# Altium footprint library CONN_SMT.PcbLib: 33 footprints (part 1 of 3)
Each footprint in its own frame and in the unit in brackets; x right, y up, seen from the top. Pads: shape width x height; smd on the part's side, far side on the other; paste and mask are expansions set on the pad; w line width, h text height; cw(c..) or ccw(c..) is an arc to the next point about the centre after c.
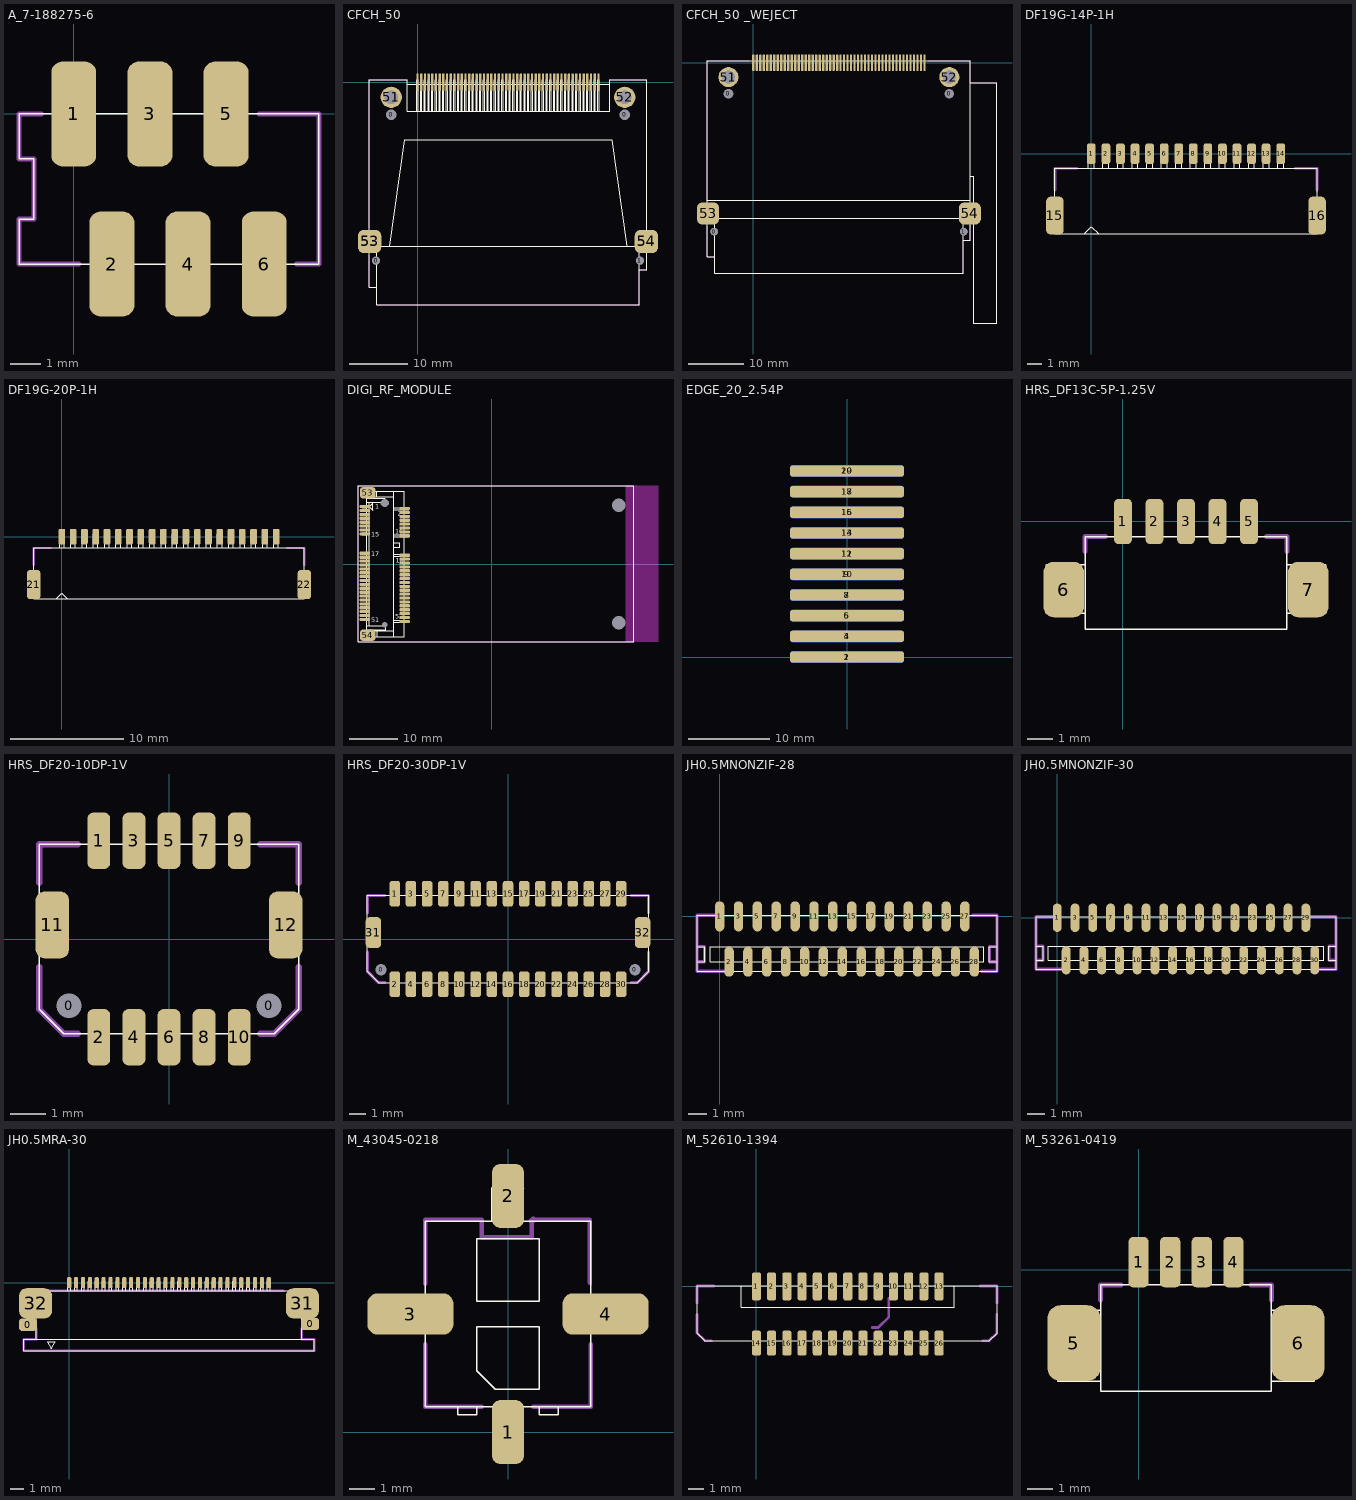
[diagram p0: the footprints below, top view; thin cyan lines are the x and y axes]

## A_7-188275-6 [mm] "Amp 188275 series 2.54 mm pitch, 6 way, jack. Rev. 1"
height 5.3
pads (6):
  rrect50% 1.5x3.5 smd: 1(0,0) 2(1.27,-5) 3(2.54,0) 4(3.81,-5) 5(5.08,0) 6(6.35,-5)
Top Overlay:
  lines w0.05: -1.825,-5 -1.825,-3.5 -1.325,-3.5 -1.325,-1.5 -1.825,-1.5 -1.825,0 8.175,0 8.175,-5 -1.825,-5
Comp Silk:
  lines w0.18: -1.075,0 -1.825,0 -1.825,-1.5 -1.325,-1.5 -1.325,-3.5 -1.825,-3.5 -1.825,-5 0.175,-5 ; 6.175,0 8.175,0 8.175,-5 7.425,-5
  text ".Designator" at -0.825,-3 h1.5

## CFCH_50 [mm] "Connector; CompactFlash Card Header, SM; Normal Polarization; 50 Position; Right Angle; Pitch 0.635 mm"
height 8.3
pads (58):
  round 1.35 hole 1.35: 0(-7.14,-30.7) 1(38.26,-30.7)
  round 1.4 hole 1.75 unplated: 0(-4.52,-5.6) 0(35.64,-5.6)
  rrect50% 0.4x3 smd: 1(0,0) 2(1.27,0) 3(2.54,0) 4(3.81,0) 5(5.08,0) 6(6.35,0) 7(7.62,0) 8(8.89,0) 9(10.16,0) 10(11.43,0) 11(12.7,0) 12(13.97,0) 13(15.24,0) 14(16.51,0) 15(17.78,0) 16(19.05,0) 17(20.32,0) 18(21.59,0) 19(22.86,0) 20(24.13,0) 21(25.4,0) 22(26.67,0) 23(27.94,0) 24(29.21,0) 25(30.48,0) 26(0.635,0) 27(1.905,0) 28(3.175,0) 29(4.445,0) 30(5.715,0) 31(6.985,0) 32(8.255,0) 33(9.525,0) 34(10.795,0) 35(12.065,0) 36(13.335,0) 37(14.605,0) 38(15.875,0) 39(17.145,0) 40(18.415,0) 41(19.685,0) 42(20.955,0) 43(22.225,0) 44(23.495,0) 45(24.765,0) 46(26.035,0) 47(27.305,0) 48(28.575,0) 49(29.845,0) 50(31.115,0)
  round 3.65 hole 2.3: 51(-4.52,-2.6) 52(35.64,-2.6)
  rrect50% 4x4 smd: 53(-8.24,-27.4) 54(39.36,-27.4)
Top Overlay:
  drawing of 226 lines, arcs and shapes, not listed
Comp Silk:
  lines w0.18: -8.34,-29.77 -8.34,-35.25 -7,-35.25 -7,-38.25 38.12,-38.25 38.12,-32.25 39.46,-32.25 39.46,-29.63 ; -8.34,-25 -8.34,0.39 ; -8.34,0.4 -1.8,0.4 ; 33.1,0.41 33.11,0.4 39.46,0.4 39.46,-24.99
  text ".Designator" at 10.7,-8.2 h1.5

## CFCH_50 _WEJECT [mm] "Connector; CompactFlash Card Header, SM; Normal Polarization; 50 Position; Right Angle; Pitch 0.635 mm"
height 8.3
pads (58):
  round 1.35 hole 1.35: 0(-7.14,-30.7) 1(38.26,-30.7)
  round 1.4 hole 1.75 unplated: 0(-4.52,-5.6) 0(35.64,-5.6)
  rrect50% 0.4x3 smd: 1(0,0) 2(1.27,0) 3(2.54,0) 4(3.81,0) 5(5.08,0) 6(6.35,0) 7(7.62,0) 8(8.89,0) 9(10.16,0) 10(11.43,0) 11(12.7,0) 12(13.97,0) 13(15.24,0) 14(16.51,0) 15(17.78,0) 16(19.05,0) 17(20.32,0) 18(21.59,0) 19(22.86,0) 20(24.13,0) 21(25.4,0) 22(26.67,0) 23(27.94,0) 24(29.21,0) 25(30.48,0) 26(0.635,0) 27(1.905,0) 28(3.175,0) 29(4.445,0) 30(5.715,0) 31(6.985,0) 32(8.255,0) 33(9.525,0) 34(10.795,0) 35(12.065,0) 36(13.335,0) 37(14.605,0) 38(15.875,0) 39(17.145,0) 40(18.415,0) 41(19.685,0) 42(20.955,0) 43(22.225,0) 44(23.495,0) 45(24.765,0) 46(26.035,0) 47(27.305,0) 48(28.575,0) 49(29.845,0) 50(31.115,0)
  round 3.65 hole 2.3: 51(-4.52,-2.6) 52(35.64,-2.6)
  rrect50% 4x4 smd: 53(-8.24,-27.4) 54(39.36,-27.4)
Top Overlay:
  lines w0.05: -8.34,-25.03 -8.33,-25.02 39.47,-25.02 ; 39.46,-20.6 40.1,-20.6 40.1,-47.4 44.3,-47.4 44.3,-3.6 39.47,-3.6 39.46,-3.59 ; -7,-35.25 -8.34,-35.25 -8.34,0.4 -1.8,0.4 33.1,0.4 39.46,0.4 39.46,-32.25 38.12,-32.25 ; -7,-35.25 -7,-28.25 38.11,-28.25 ; -7,-35.25 -7,-38.25 38.12,-38.25 38.12,-32.25 ; 38.11,-28.25 38.12,-28.26 ; 38.11,-28.25 38.12,-28.26 ; 38.12,-32.25 38.12,-28.26
Comp Silk:
  lines w0.18: -8.34,-29.77 -8.34,-35.25 -7,-35.25 -7,-38.25 38.12,-38.25 38.12,-32.25 39.46,-32.25 39.46,-29.63 ; -8.34,-25 -8.34,0.39 ; -8.34,0.4 -0.91,0.4 ; 31.78,0.4 39.46,0.4 39.46,-3.6 ; 39.5,-3.6 44.3,-3.6 44.3,-47.4 40.1,-47.4 40.1,-29.7
  text ".Designator" at 10.7,-8.2 h1.5

## DF19G-14P-1H [mm] "HRS DF19 Series 1mm pitch, 14 way, board to cable, Rev.2"
height 1.65
pads (16):
  rrect50% 0.6x1.4 smd paste+0: 1(0,0) 2(1,0) 3(2,0) 4(3,0) 5(4,0) 6(5,0) 7(6,0) 8(7,0) 9(8,0) 10(9,0) 11(10,0) 12(11,0) 13(12,0) 14(13,0)
  rrect50% 1.2x2.6 smd: 15(-2.5,-4.25) 16(15.5,-4.25)
Top Overlay:
  lines w0.05: -0.5,-5.5 0,-5 0.5,-5.5 ; -0.2,-1 -0.2,0.2 0.2,0.2 0.2,-1 ; 0.8,-1 0.8,0.2 1.2,0.2 1.2,-1 ; 1.8,-1 1.8,0.2 2.2,0.2 2.2,-1 ; 2.8,-1 2.8,0.2 3.2,0.2 3.2,-1 ; 3.8,-1 3.8,0.2 4.2,0.2 4.2,-1 ; 4.8,-1 4.8,0.2 5.2,0.2 5.2,-1 ; 5.8,-1 5.8,0.2 6.2,0.2 6.2,-1 ; 6.8,-1 6.8,0.2 7.2,0.2 7.2,-1 ; 7.8,-1 7.8,0.2 8.2,0.2 8.2,-1 ; 8.8,-1 8.8,0.2 9.2,0.2 9.2,-1 ; 9.8,-1 9.8,0.2 10.2,0.2 10.2,-1 ; 10.8,-1 10.8,0.2 11.2,0.2 11.2,-1 ; 11.8,-1 11.8,0.2 12.2,0.2 12.2,-1 ; 12.8,-1 12.8,0.2 13.2,0.2 13.2,-1 ; -2.5,-5.5 -2.5,-1 15.5,-1 15.5,-5.5 -2.5,-5.5
Comp Silk:
  lines w0.2: -2.5,-2.5 -2.5,-1 -1,-1 ; 14,-1 15.5,-1 15.5,-2.5
  text ".Designator" at -1.25,-3.75 h1.5

## DF19G-20P-1H [mm] "HRS DF19 Series 1mm pitch, 20 way, board to cable, Rev.2"
height 1.65
pads (22):
  rrect50% 0.6x1.4 smd paste+0: 1(0,0) 2(1,0) 3(2,0) 4(3,0) 5(4,0) 6(5,0) 7(6,0) 8(7,0) 9(8,0) 10(9,0) 11(10,0) 12(11,0) 13(12,0) 14(13,0) 15(14,0) 16(15,0) 17(16,0) 18(17,0) 19(18,0) 20(19,0)
  rrect50% 1.2x2.6 smd: 21(-2.5,-4.25) 22(21.5,-4.25)
Top Overlay:
  lines w0.05: -0.5,-5.5 0,-5 0.5,-5.5 ; -0.2,-1 -0.2,0.2 0.2,0.2 0.2,-1 ; 0.8,-1 0.8,0.2 1.2,0.2 1.2,-1 ; 1.8,-1 1.8,0.2 2.2,0.2 2.2,-1 ; 2.8,-1 2.8,0.2 3.2,0.2 3.2,-1 ; 3.8,-1 3.8,0.2 4.2,0.2 4.2,-1 ; 4.8,-1 4.8,0.2 5.2,0.2 5.2,-1 ; 5.8,-1 5.8,0.2 6.2,0.2 6.2,-1 ; 6.8,-1 6.8,0.2 7.2,0.2 7.2,-1 ; 7.8,-1 7.8,0.2 8.2,0.2 8.2,-1 ; 8.8,-1 8.8,0.2 9.2,0.2 9.2,-1 ; 9.8,-1 9.8,0.2 10.2,0.2 10.2,-1 ; 10.8,-1 10.8,0.2 11.2,0.2 11.2,-1 ; 11.8,-1 11.8,0.2 12.2,0.2 12.2,-1 ; 12.8,-1 12.8,0.2 13.2,0.2 13.2,-1 ; 13.8,-1 13.8,0.2 14.2,0.2 14.2,-1 ; 14.8,-1 14.8,0.2 15.2,0.2 15.2,-1 ; 15.8,-1 15.8,0.2 16.2,0.2 16.2,-1 ; 16.8,-1 16.8,0.2 17.2,0.2 17.2,-1 ; 17.8,-1 17.8,0.2 18.2,0.2 18.2,-1 ; 18.8,-1 18.8,0.2 19.2,0.2 19.2,-1 ; -2.5,-5.5 -2.5,-1 21.5,-1 21.5,-5.5 -2.5,-5.5
Comp Silk:
  lines w0.2: -2.5,-2.5 -2.5,-1 -1,-1 ; 20,-1 21.5,-1 21.5,-2.5
  text ".Designator" at 1.5,-3.75 h1.5

## DIGI_RF_MODULE [mm] "317-0100-084 REV1"
height 4.1
pads (58):
  rrect50% 2.1x0.65 smd mask+0.102: 1(-26.125,11.8) 3(-26.125,11) 5(-26.125,10.2) 7(-26.125,9.4) 9(-26.125,8.6) 11(-26.125,7.8)
  rrect50% 2.1x0.65 smd: 2(-17.925,11.4) 4(-17.925,10.6) 6(-17.925,9.8) 8(-17.925,9) 10(-17.925,8.2) 12(-17.925,7.4) 13(-26.125,7) 14(-17.925,6.6) 15(-26.125,6.2) 16(-17.925,5.8) 17(-26.125,2.2) 18(-17.925,1.8) 19(-26.125,1.4) 20(-17.925,1) 21(-26.125,0.6) 22(-17.925,0.2) 23(-26.125,-0.2) 24(-17.925,-0.6) 25(-26.125,-1) 26(-17.925,-1.4) 27(-26.125,-1.8) 28(-17.925,-2.2) 29(-26.125,-2.6) 30(-17.925,-3) 31(-26.125,-3.4) 32(-17.925,-3.8) 33(-26.125,-4.2) 34(-17.925,-4.6) 35(-26.125,-5) 36(-17.925,-5.4) 37(-26.125,-5.8) 38(-17.925,-6.2) 39(-26.125,-6.6) 40(-17.925,-7) 41(-26.125,-7.4) 42(-17.925,-7.8) 43(-26.125,-8.2) 44(-17.925,-8.6) 45(-26.125,-9) 46(-17.925,-9.4) 47(-26.125,-9.8) 48(-17.925,-10.2) 49(-26.125,-10.6) 50(-17.925,-11) 51(-26.125,-11.4) 52(-17.925,-11.8)
  rrect50% 3.2x2.3 smd: 53(-25.525,14.65) 54(-25.525,-14.65)
  round 0.6 on Top hole 1.65 unplated: 55(-22.025,12.5)
  round 0.6 on Top hole 1.15 unplated: 56(-22.025,-12.5)
  round 0.6 on Top hole 2.8: 57(26.125,12.1) 58(26.125,-12.1)
Top Overlay:
  lines w0.05: -25.775,-11.2 -26.7,-11.2 -26.7,-11.6 -25.75,-11.6 ; -25.75,-13.775 -20.15,-13.775 ; -25.75,-13.525 -21.85,-13.525 -21.85,-12.7 -25.75,-12.7 ; -25.75,2 -26.7,2 -26.7,2.4 -25.75,2.4 ; -25.75,6 -26.7,6 -26.7,6.4 -25.75,6.4 ; -25.75,11.575 -26.7,11.575 -26.7,12 -25.75,12 ; -25.75,12.7 -21.85,12.7 -21.85,13.225 -22.15,13.525 -25.75,13.525 ; -25.75,13.825 -20.15,13.825 ; -25.241,11.791 -24.541,11.091 -24.54,12.516 ; -25.24,11.815 -24.54,12.515 ; -25.225,-12.7 -25.225,12.7 ; -23.625,13.825 -23.625,15 ; -23.6,-15 -23.6,-13.775 ; -20.15,-15 -20.15,15 ; -20.15,-12 -17.075,-12 -17.075,-11.575 -20.15,-11.575 ; -20.15,1.575 -17.075,1.575 -17.075,2 -20.15,2 ; -20.15,3.475 -18.975,3.475 -18.975,4.325 -20.15,4.325 ; -20.15,5.575 -17.05,5.575 -17.05,6 -20.15,6 ; -20.15,11.175 -17.05,11.175 -17.05,11.6 -20.15,11.6 ; -18,-12 -18,-15 -25.75,-15 -25.75,15 -18,15 -18,11.6 ; -18,-11.575 -18,1.575 ; -18,2 -18,5.575 ; -18,6 -18,11.175 ; -27.525,-16 -27.525,16.1 29.175,16.1 29.175,-16 -27.525,-16
  text "2" at -19.35,9.925 h1
  text "1" at -24,11.35 h1
  text "51" at -24.75,-12 h1
  text "17" at -24.75,1.6 h1
  text "16" at -19.875,6.2 h1
  text "15" at -24.75,5.6 h1
  text "18" at -19.775,0.3 h1
  text "52" at -19.9,-11.25 h1
Keep-Out Layer:
  region: 27.575,16.1 31.175,16.1 34.175,16.1 34.175,-16 27.575,-16
Comp Silk:
  lines w0.18: -27.525,-16 -27.525,16.1 29.175,16.1 29.175,-16 -27.525,-16
  lines w0.254: 29.575,16.1 29.675,16
  text ".Designator" at -2.925,0.9 h1.5

## EDGE_20_2.54P [mm] "20 way edge finger connector, both sides. Rev. 1"
height 0.01
pads (20):
  rrect50% 14x1.4 smd far side paste+0: 1(0,0) 3(0,2.54) 5(0,5.08) 7(0,7.62) 9(0,10.16) 11(0,12.7) 13(0,15.24) 15(0,17.78) 17(0,20.32) 19(0,22.86)
  rrect50% 14x1.4 smd paste+0: 2(0,0) 4(0,2.54) 6(0,5.08) 8(0,7.62) 10(0,10.16) 12(0,12.7) 14(0,15.24) 16(0,17.78) 18(0,20.32) 20(0,22.86)
Top Solder:
  region: -7.112,23.622 7.112,23.622 7.112,-0.762 -7.112,-0.762 -7.112,23.622
Bottom Solder:
  region: -7.112,23.622 7.112,23.622 7.112,-0.762 -7.112,-0.762 -7.112,23.622

## HRS_DF13C-5P-1.25V [mm] "HRS DF13 series 1.25 mm pitch, 5 way, plug., Rev. 2"
height 4.8
pads (7):
  rrect50% 0.7x1.8 smd paste+0: 1(0,0) 2(1.25,0) 3(2.5,0) 4(3.75,0) 5(5,0)
  rrect50% 1.6x2.2 smd: 6(-2.35,-2.7) 7(7.35,-2.7)
Top Overlay:
  lines w0.05: -0.975,-4.275 6.5,-4.275 6.5,-0.6 -1.5,-0.6 -1.5,-4.275 -0.675,-4.275 ; -0.2,-0.6 -0.2,0 -0.2,0.6 0.2,0.6 0.2,-0.6 ; 1.05,-0.575 1.05,0.025 1.05,0.625 1.45,0.625 1.45,-0.575 ; 2.3,-0.575 2.3,0.025 2.3,0.625 2.7,0.625 2.7,-0.575 ; 3.55,-0.575 3.55,0.025 3.55,0.625 3.95,0.625 3.95,-0.575 ; 4.8,-0.6 4.8,0 4.8,0.6 5.2,0.6 5.2,-0.6 ; -3.05,-3.65 -3.05,-1.725 -1.5,-1.725 -1.5,-3.65 -3.05,-3.65 ; 6.5,-3.65 8.05,-3.65 8.05,-1.725 6.5,-1.725 6.5,-3.65
Comp Silk:
  lines w0.2: -1.5,-1.2 -1.5,-0.6 -0.7,-0.6 ; 5.7,-0.6 6.5,-0.6 6.5,-1.2
  text ".Designator" at -0.375,-3.05 h1.5

## HRS_DF20-10DP-1V [mm] "Hirose DF20 series 1 mm pitch, 10 way, plug. Rev. 2"
height 4.6
pads (14):
  round 0.5 hole 0.7 unplated: 0(-2.85,-1.9) 0(2.85,-1.9)
  rrect50% 0.65x1.6 smd paste+0: 1(-2,2.8) 2(-2,-2.8) 3(-1,2.8) 4(-1,-2.8) 5(0,2.8) 6(0,-2.8) 7(1,2.8) 8(1,-2.8) 9(2,2.8) 10(2,-2.8)
  rrect50% 0.95x1.9 smd: 11(-3.325,0.4) 12(3.325,0.4)
Top Overlay:
  lines w0.05: -3.7,-2 -3.7,1.9 -3.7,2.7 3.7,2.7 3.7,-2 3,-2.7 -3,-2.7 -3.7,-2
Comp Silk:
  lines w0.18: -3.7,-0.8 -3.7,-2 -3,-2.7 -2.6,-2.7 ; -3.7,1.6 -3.7,2.7 -2.6,2.7 ; 2.6,-2.7 3,-2.7 3.7,-2 3.7,-0.8 ; 2.6,2.7 3.7,2.7 3.7,1.6
  text ".Designator" at -1.8,-0.6 h1.5

## HRS_DF20-30DP-1V [mm] "Hirose DF20 series 1 mm pitch, 30 way, plug. Rev. 2"
height 4.6
pads (34):
  round 0.5 hole 0.7 unplated: 0(-7.85,-1.9) 0(7.85,-1.9)
  rrect50% 0.65x1.6 smd paste+0: 1(-7,2.8) 2(-7,-2.8) 3(-6,2.8) 4(-6,-2.8) 5(-5,2.8) 6(-5,-2.8) 7(-4,2.8) 8(-4,-2.8) 9(-3,2.8) 10(-3,-2.8) 11(-2,2.8) 12(-2,-2.8) 13(-1,2.8) 14(-1,-2.8) 15(0,2.8) 16(0,-2.8) 17(1,2.8) 18(1,-2.8) 19(2,2.8) 20(2,-2.8) 21(3,2.8) 22(3,-2.8) 23(4,2.8) 24(4,-2.8) 25(5,2.8) 26(5,-2.8) 27(6,2.8) 28(6,-2.8) 29(7,2.8) 30(7,-2.8)
  rrect50% 0.95x1.9 smd: 31(-8.325,0.4) 32(8.325,0.4)
Top Overlay:
  lines w0.05: -8.7,-2 -8,-2.7 -0.4,-2.7 8,-2.7 8.7,-2 8.7,2.7 -8.7,2.7 -8.7,1.9 -8.7,-2
Comp Silk:
  lines w0.18: -8.7,-0.8 -8.7,-2 -8,-2.7 -7.6,-2.7 ; -8.7,1.6 -8.7,2.7 -7.6,2.7 ; 7.6,-2.7 8,-2.7 8.7,-2 8.7,-0.8 ; 7.6,2.7 8.7,2.7 8.7,1.6
  text ".Designator" at -7.4,-0.4 h1.5

## JH0.5MNONZIF-28 [mm]
height 4.064
pads (28):
  oval 0.5x1.6 smd: 1(0,0) 2(0.5,-2.4) 3(1,0) 4(1.5,-2.4) 5(2,0) 6(2.5,-2.4) 7(3,0) 8(3.5,-2.4) 9(4,0) 10(4.5,-2.4) 11(5,0) 12(5.5,-2.4) 13(6,0) 14(6.5,-2.4) 15(7,0) 16(7.5,-2.4) 17(8,0) 18(8.5,-2.4) 19(9,0) 20(9.5,-2.4) 21(10,0) 22(10.5,-2.4) 23(11,0) 24(11.5,-2.4) 25(12,0) 26(12.5,-2.4) 27(13,0) 28(13.5,-2.4)
Top Overlay:
  lines w0.05: -1.2,-2.4 -0.8,-2.4 -0.8,-1.6 -1.2,-1.6 ; -0.15,0.05 -0.15,0.5 0.15,0.5 0.15,0.05 ; 0.85,0.05 0.85,0.5 1.15,0.5 1.15,0.05 ; 1.85,0.05 1.85,0.5 2.15,0.5 2.15,0.05 ; 2.85,0.05 2.85,0.5 3.15,0.5 3.15,0.05 ; 3.85,0.05 3.85,0.5 4.15,0.5 4.15,0.05 ; 4.85,0.05 4.85,0.5 5.15,0.5 5.15,0.05 ; 5.85,0.05 5.85,0.5 6.15,0.5 6.15,0.05 ; 6.85,0.05 6.85,0.5 7.15,0.5 7.15,0.05 ; 7.85,0.05 7.85,0.5 8.15,0.5 8.15,0.05 ; 8.85,0.05 8.85,0.5 9.15,0.5 9.15,0.05 ; 9.85,0.05 9.85,0.5 10.15,0.5 10.15,0.05 ; 10.85,0.05 10.85,0.5 11.15,0.5 11.15,0.05 ; 11.85,0.05 11.85,0.5 12.15,0.5 12.15,0.05 ; 12.85,0.05 12.85,0.5 13.15,0.5 13.15,0.05 ; 14.7,-2.4 14.3,-2.4 14.3,-1.6 14.7,-1.6 ; -1.2,-2.9 14.7,-2.9 14.7,0.05 -1.2,0.05 -1.2,-2.9 ; -0.5,-2.4 14,-2.4 14,-1.6 -0.5,-1.6 -0.5,-2.4
Comp Silk:
  lines w0.18: -1.2,-2.4 -0.8,-2.4 -0.8,-1.6 -1.2,-1.6 ; -0.2,0.05 -1.2,0.05 -1.2,-2.9 0.3,-2.9 ; 13.4,0.05 14.7,0.05 14.7,-2.9 13.9,-2.9 ; 14.7,-2.4 14.3,-2.4 14.3,-1.6 14.7,-1.6
  text ".Designator" at -0.5,-1.6 h1.5

## JH0.5MNONZIF-30 [mm]
height 4.064
pads (30):
  oval 0.5x1.6 smd: 1(0,0) 2(0.5,-2.4) 3(1,0) 4(1.5,-2.4) 5(2,0) 6(2.5,-2.4) 7(3,0) 8(3.5,-2.4) 9(4,0) 10(4.5,-2.4) 11(5,0) 12(5.5,-2.4) 13(6,0) 14(6.5,-2.4) 15(7,0) 16(7.5,-2.4) 17(8,0) 18(8.5,-2.4) 19(9,0) 20(9.5,-2.4) 21(10,0) 22(10.5,-2.4) 23(11,0) 24(11.5,-2.4) 25(12,0) 26(12.5,-2.4) 27(13,0) 28(13.5,-2.4) 29(14,0) 30(14.5,-2.4)
Top Overlay:
  lines w0.05: -1.2,-2.4 -0.8,-2.4 -0.8,-1.6 -1.2,-1.6 ; -0.15,0.05 -0.15,0.5 0.15,0.5 0.15,0.05 ; 0.85,0.05 0.85,0.5 1.15,0.5 1.15,0.05 ; 1.85,0.05 1.85,0.5 2.15,0.5 2.15,0.05 ; 2.85,0.05 2.85,0.5 3.15,0.5 3.15,0.05 ; 3.85,0.05 3.85,0.5 4.15,0.5 4.15,0.05 ; 4.85,0.05 4.85,0.5 5.15,0.5 5.15,0.05 ; 5.85,0.05 5.85,0.5 6.15,0.5 6.15,0.05 ; 6.85,0.05 6.85,0.5 7.15,0.5 7.15,0.05 ; 7.85,0.05 7.85,0.5 8.15,0.5 8.15,0.05 ; 8.85,0.05 8.85,0.5 9.15,0.5 9.15,0.05 ; 9.85,0.05 9.85,0.5 10.15,0.5 10.15,0.05 ; 10.85,0.05 10.85,0.5 11.15,0.5 11.15,0.05 ; 11.85,0.05 11.85,0.5 12.15,0.5 12.15,0.05 ; 12.85,0.05 12.85,0.5 13.15,0.5 13.15,0.05 ; 13.85,0.05 13.85,0.5 14.15,0.5 14.15,0.05 ; 15.7,-2.4 15.3,-2.4 15.3,-1.6 15.7,-1.6 ; -1.2,-2.9 15.7,-2.9 15.7,0.05 -1.2,0.05 -1.2,-2.9 ; -0.5,-2.4 15,-2.4 15,-1.6 -0.5,-1.6 -0.5,-2.4
Comp Silk:
  lines w0.18: -1.2,-2.4 -0.8,-2.4 -0.8,-1.6 -1.2,-1.6 ; -0.2,0.05 -1.2,0.05 -1.2,-2.9 0.3,-2.9 ; 14.2,0.05 15.7,0.05 15.7,-2.9 14.7,-2.9 ; 15.7,-2.4 15.3,-2.4 15.3,-1.6 15.7,-1.6
  text ".Designator" at 0.381,-1.524 h1.5

## JH0.5MRA-30 [mm]
height 1.778
pads (34):
  rrect50% 1.3x0.9 smd: 0(-3,-3.05) 0(17.5,-3)
  rrect50% 0.3x0.8 smd: 1(0,0) 2(0.5,0) 3(1,0) 4(1.5,0) 5(2,0) 6(2.5,0) 7(3,0) 8(3.5,0) 9(4,0) 10(4.5,0) 11(5,0) 12(5.5,0) 13(6,0) 14(6.5,0) 15(7,0) 16(7.5,0) 17(8,0) 18(8.5,0) 19(9,0) 20(9.5,0) 21(10,0) 22(10.5,0) 23(11,0) 24(11.5,0) 25(12,0) 26(12.5,0) 27(13,0) 28(13.5,0) 29(14,0) 30(14.5,0)
  rrect50% 2.4x2.2 smd: 31(16.95,-1.5) 32(-2.45,-1.5)
Top Overlay:
  lines w0.05: -2.4,-4.1 -2.4,-0.6 16.9,-0.6 16.9,-4.1 ; -2.4,-1.8 -3.1,-1.8 -3.1,-1.6 -2.6,-1.6 -2.6,-1.3 -3.1,-1.3 -3.1,-1.1 -2.6,-1.1 -2.6,-0.7 -2.4,-0.7 ; -0.1,-0.6 -0.1,0.1 0.1,0.1 0.1,-0.6 ; 0.4,-0.6 0.4,0.1 0.6,0.1 0.6,-0.6 ; 0.9,-0.6 0.9,0.1 1.1,0.1 1.1,-0.6 ; 1.4,-0.6 1.4,0.1 1.6,0.1 1.6,-0.6 ; 1.9,-0.6 1.9,0.1 2.1,0.1 2.1,-0.6 ; 2.4,-0.6 2.4,0.1 2.6,0.1 2.6,-0.6 ; 2.9,-0.6 2.9,0.1 3.1,0.1 3.1,-0.6 ; 3.4,-0.6 3.4,0.1 3.6,0.1 3.6,-0.6 ; 3.9,-0.6 3.9,0.1 4.1,0.1 4.1,-0.6 ; 4.4,-0.6 4.4,0.1 4.6,0.1 4.6,-0.6 ; 4.9,-0.6 4.9,0.1 5.1,0.1 5.1,-0.6 ; 5.4,-0.6 5.4,0.1 5.6,0.1 5.6,-0.6 ; 5.9,-0.6 5.9,0.1 6.1,0.1 6.1,-0.6 ; 6.4,-0.6 6.4,0.1 6.6,0.1 6.6,-0.6 ; 6.9,-0.6 6.9,0.1 7.1,0.1 7.1,-0.6 ; 7.4,-0.6 7.4,0.1 7.6,0.1 7.6,-0.6 ; 7.9,-0.6 7.9,0.1 8.1,0.1 8.1,-0.6 ; 8.4,-0.6 8.4,0.1 8.6,0.1 8.6,-0.6 ; 8.9,-0.6 8.9,0.1 9.1,0.1 9.1,-0.6 ; 9.4,-0.6 9.4,0.1 9.6,0.1 9.6,-0.6 ; 9.9,-0.6 9.9,0.1 10.1,0.1 10.1,-0.6 ; 10.4,-0.6 10.4,0.1 10.6,0.1 10.6,-0.6 ; 10.9,-0.6 10.9,0.1 11.1,0.1 11.1,-0.6 ; 11.4,-0.6 11.4,0.1 11.6,0.1 11.6,-0.6 ; 11.9,-0.6 11.9,0.1 12.1,0.1 12.1,-0.6 ; 12.4,-0.6 12.4,0.1 12.6,0.1 12.6,-0.6 ; 12.9,-0.6 12.9,0.1 13.1,0.1 13.1,-0.6 ; 13.4,-0.6 13.4,0.1 13.6,0.1 13.6,-0.6 ; 13.9,-0.6 13.9,0.1 14.1,0.1 14.1,-0.6 ; 14.4,-0.6 14.4,0.1 14.6,0.1 14.6,-0.6 ; 16.9,-1.8 17.6,-1.8 17.6,-1.6 17.1,-1.6 17.1,-1.3 17.6,-1.3 17.6,-1.1 17.1,-1.1 17.1,-0.7 16.9,-0.7 ; -3.3,-4.95 -3.3,-4.1 17.8,-4.1 17.8,-4.95 -3.3,-4.95 ; -1.6,-4.3 -1,-4.3 -1.3,-4.8 -1.6,-4.3
Comp Silk:
  lines w0.18: -2.4,-3.3 -2.4,-4.1 -3.3,-4.1 -3.3,-4.95 17.8,-4.95 17.8,-4.1 16.9,-4.1 16.9,-3.3 ; -1.65,-0.6 15.55,-0.6
  text ".Designator" at -0.254,-2.794 h1.52

## M_43045-0218 [mm] "Molex 43045-0281 series 0 mm pitch, 2 way, plug, Rev. 1"
height 9.9
pads (4):
  rrect50% 1.27x2.54 smd paste+0: 1(0,0) 2(0,9.4)
  rrect50% 3.43x1.65 smd: 3(-3.885,4.7) 4(3.885,4.7)
Top Overlay:
  lines w0.05: -3.3,4.275 -4.975,4.275 -4.975,5.125 -3.3,5.125 ; -2,1 -2,0.7 -1.25,0.7 -1.25,1 ; -0.65,8.4 -0.65,9.7 -0.625,9.725 0.625,9.725 0.6,9.7 0.6,8.4 ; -0.45,0.975 -0.45,-0.7 0.4,-0.7 0.4,0.975 ; 1.25,1 1.25,0.7 2,0.7 2,1 ; 3.3,4.325 4.975,4.325 4.975,5.175 3.3,5.175 ; -3.3,1 -3.3,8.4 3.3,8.4 3.3,1 -3.3,1 ; -1.25,2.45 -1.25,4.2 1.25,4.2 1.25,1.7 -0.5,1.7 -1.25,2.45 ; -1.25,5.2 1.25,5.2 1.25,7.7 -1.25,7.7 -1.25,5.2
Comp Silk:
  lines w0.18: -3.3,3.5 -3.3,1 -1.05,1 ; -3.3,5.9 -3.3,8.4 ; -3.3,8.45 -1.05,8.45 -1.05,7.75 0.95,7.75 0.95,8.4 ; 1,1 3.25,1 ; 1,8.45 3.25,8.45 3.25,5.95 ; 3.3,1 3.3,3.5
  lines w0.254: 0.95,8.4 1,8.45
  text ".Designator" at -1.75,4.2 h1.5

## M_52610-1394 [mm] "Molex 52610 series 1 mm pitch, 30 way, receptacle. Rev. 1"
height 7.25
pads (26):
  rrect50% 0.6x1.85 smd paste+0: 1(0,0) 2(1,0) 3(2,0) 4(3,0) 5(4,0) 6(5,-0.001) 7(6,0) 8(7,0) 9(8,0) 10(9,0) 11(10,0) 12(11,0) 13(12,-0.001)
  rrect50% 0.6x1.65 smd paste+0: 14(0,-3.725) 15(1,-3.725) 16(2,-3.725) 17(3,-3.725) 18(4,-3.725) 19(5,-3.725) 20(6,-3.725) 21(7,-3.725) 22(8,-3.725) 23(9,-3.725) 24(10,-3.725) 25(11,-3.725) 26(12,-3.725)
Top Overlay:
  lines w0.05: -1,0.037 -1,-1.363 13,-1.363 13,0.037 ; -3.9,-3.063 -3.9,-0.663 -3.9,0.037 15.8,0.037 15.8,-3.063 15.3,-3.562 -3.4,-3.562 -3.6,-3.363 -3.9,-3.063
Comp Silk:
  lines w0.18: -3.9,-1.85 -3.9,-3.05 -3.387,-3.562 -2.987,-3.562 ; -3.9,-1.075 -3.9,0.025 -2.8,0.025 ; 7.6,-2.7 8,-2.7 8.7,-2 8.7,-0.8 ; 14.7,0.025 15.8,0.025 15.8,-1.075 ; 14.875,-3.562 15.275,-3.562 15.787,-3.05 15.787,-1.85
  text ".Designator" at 0.25,-2.575 h1.5

## M_53261-0419 [mm] "Molex 53261 series 1.25 mm pitch, 4 way, plug, Rev. 2"
height 3.4
pads (6):
  rrect50% 0.8x2 smd paste+0: 1(0,0.3) 2(1.25,0.3) 3(2.5,0.3) 4(3.75,0.3)
  rrect50% 2.1x3 smd: 5(-2.55,-2.9) 6(6.3,-2.9)
Top Overlay:
  lines w0.05: -1.5,-4.4 -3.2,-4.4 -3.2,-1.6 -1.5,-1.6 ; -0.2,-0.6 -0.2,0 0.2,0 0.2,-0.6 ; 1.05,-0.6 1.05,0 1.45,0 1.45,-0.6 ; 2.3,-0.6 2.3,0 2.7,0 2.7,-0.6 ; 3.55,-0.6 3.55,0 3.95,0 3.95,-0.6 ; 5.25,-4.4 6.95,-4.4 6.95,-1.6 5.25,-1.6 ; -1.5,-4.8 -1.5,-0.6 5.25,-0.6 5.25,-4.8 -1.5,-4.8
Comp Silk:
  lines w0.2: -1.5,-1.2 -1.5,-0.6 -0.7,-0.6 ; 4.45,-0.6 5.25,-0.6 5.25,-1.2
  text ".Designator" at -1.25,-3.75 h1.5